# Altium schematic symbol library capacitor_murata_0201.SchLib: 408 symbols (part 1 of 9)
Pins are listed as number, name and electrical type; pins without a type are passive.

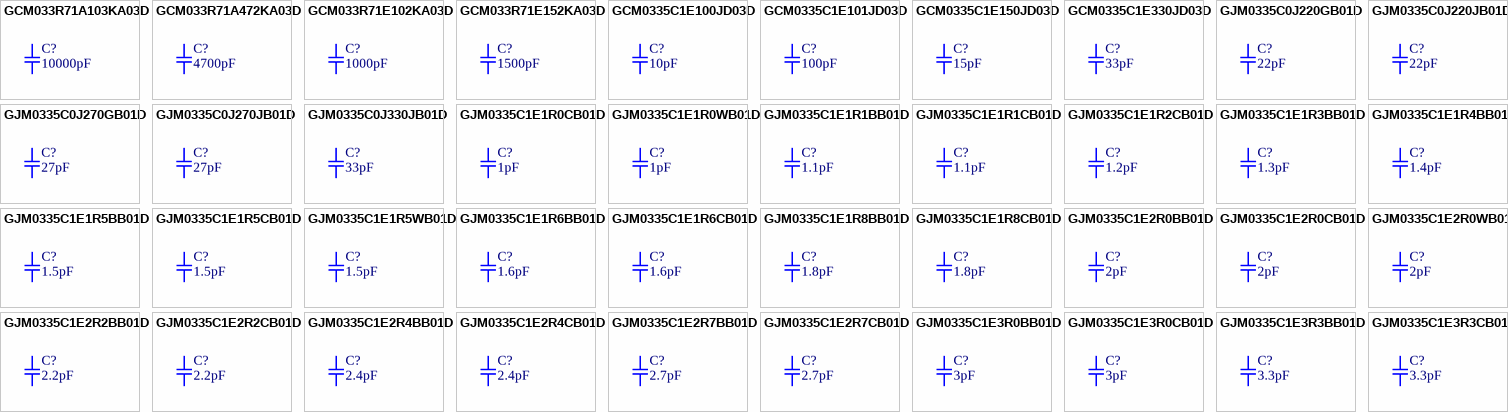
[diagram p0: symbols GCM033R71A103KA03D to GJM0335C1E3R3CB01D]

## GCM033R71A103KA03D
designator C?, comment 10000pF
CAP CER 10000PF 10V X7R 0201; Part Number: GCM033R71A103KA03D; Manufacturer: Murata Electronics North America; Factory Stock: 0; Unit Price (USD): 0.1; Minimum Quantity: 1; Tolerance: ±10%; Datasheets: http://www.murata.com/~/media/webrenewal/support/library/catalog/products/capacitor/mlcc/c03e.ashx; Image: //media.digikey.com/Renders/Murata%20Renders/0201-0603.jpg; Digi-Key Part Number: 490-6040-1-ND; Quantity Available: 388635; @ qty: 0; Packaging: Cut Tape (CT); Series: GCM; Part Status: Active; Value: 10000pF; Voltage: 10V; Temperature Coefficient: X7R; Operating Temperature: -55°C ~ 125°C; Features: -; Ratings: AEC-Q200; Applications: Automotive; Failure Rate: Surface Mount, MLCC; Mounting Type: 0201 (0603 Metric); Package / Case: 0.024" L x 0.012" W (0.60mm x 0.30mm); Size / Dimension: -; Height - Seated (Max): 0.013" (0.33mm); Thickness (Max): -; Lead Spacing: -
footprint SMD-0201C
pins: 1, 2

## GCM033R71A472KA03D
designator C?, comment 4700pF
CAP CER 4700PF 10V X7R 0201; Part Number: GCM033R71A472KA03D; Manufacturer: Murata Electronics North America; Factory Stock: 0; Unit Price (USD): 0.1; Minimum Quantity: 1; Tolerance: ±10%; Datasheets: http://www.murata.com/~/media/webrenewal/support/library/catalog/products/capacitor/mlcc/c03e.ashx; Image: //media.digikey.com/Renders/Murata%20Renders/0201-0603.jpg; Digi-Key Part Number: 490-7994-1-ND; Quantity Available: 24915; @ qty: 0; Packaging: Cut Tape (CT); Series: GCM; Part Status: Active; Value: 4700pF; Voltage: 10V; Temperature Coefficient: X7R; Operating Temperature: -55°C ~ 125°C; Features: -; Ratings: AEC-Q200; Applications: Automotive; Failure Rate: Surface Mount, MLCC; Mounting Type: 0201 (0603 Metric); Package / Case: 0.024" L x 0.012" W (0.60mm x 0.30mm); Size / Dimension: -; Height - Seated (Max): 0.013" (0.33mm); Thickness (Max): -; Lead Spacing: -
footprint SMD-0201C
pins: 1, 2

## GCM033R71E102KA03D
designator C?, comment 1000pF
CAP CER 1000PF 25V X7R 0201; Part Number: GCM033R71E102KA03D; Manufacturer: Murata Electronics North America; Factory Stock: 0; Unit Price (USD): 0.1; Minimum Quantity: 1; Tolerance: ±10%; Datasheets: http://www.murata.com/~/media/webrenewal/support/library/catalog/products/capacitor/mlcc/c03e.ashx; Image: //media.digikey.com/Renders/Murata%20Renders/0201-0603.jpg; Digi-Key Part Number: 490-7995-1-ND; Quantity Available: 112597; @ qty: 0; Packaging: Cut Tape (CT); Series: GCM; Part Status: Active; Value: 1000pF; Voltage: 25V; Temperature Coefficient: X7R; Operating Temperature: -55°C ~ 125°C; Features: -; Ratings: AEC-Q200; Applications: Automotive; Failure Rate: Surface Mount, MLCC; Mounting Type: 0201 (0603 Metric); Package / Case: 0.024" L x 0.012" W (0.60mm x 0.30mm); Size / Dimension: -; Height - Seated (Max): 0.013" (0.33mm); Thickness (Max): -; Lead Spacing: -
footprint SMD-0201C
pins: 1, 2

## GCM033R71E152KA03D
designator C?, comment 1500pF
CAP CER 1500PF 25V X7R 0201; Part Number: GCM033R71E152KA03D; Manufacturer: Murata Electronics North America; Factory Stock: 0; Unit Price (USD): 0.1; Minimum Quantity: 1; Tolerance: ±10%; Datasheets: http://www.murata.com/~/media/webrenewal/support/library/catalog/products/capacitor/mlcc/c03e.ashx; Image: //media.digikey.com/Renders/Murata%20Renders/0201-0603.jpg; Digi-Key Part Number: 490-7996-1-ND; Quantity Available: 74800; @ qty: 0; Packaging: Cut Tape (CT); Series: GCM; Part Status: Active; Value: 1500pF; Voltage: 25V; Temperature Coefficient: X7R; Operating Temperature: -55°C ~ 125°C; Features: -; Ratings: AEC-Q200; Applications: Automotive; Failure Rate: Surface Mount, MLCC; Mounting Type: 0201 (0603 Metric); Package / Case: 0.024" L x 0.012" W (0.60mm x 0.30mm); Size / Dimension: -; Height - Seated (Max): 0.013" (0.33mm); Thickness (Max): -; Lead Spacing: -
footprint SMD-0201C
pins: 1, 2

## GCM0335C1E100JD03D
designator C?, comment 10pF
CAP CER 10PF 25V NP0 0201; Part Number: GCM0335C1E100JD03D; Manufacturer: Murata Electronics North America; Factory Stock: 0; Unit Price (USD): 0.1; Minimum Quantity: 1; Tolerance: ±5%; Temperature Coefficient: C0G, NP0; Datasheets: http://psearch.murata.com/capacitor/product/GCM0335C1E100JD03%23.pdf; Image: //media.digikey.com/Renders/Murata%20Renders/0201-0603.jpg; Digi-Key Part Number: 490-7992-1-ND; Quantity Available: 23917; @ qty: 0; Packaging: Cut Tape (CT); Series: GCM; Part Status: Active; Value: 10pF; Voltage: 25V; Operating Temperature: -55°C ~ 125°C; Features: -; Ratings: AEC-Q200; Applications: Automotive; Failure Rate: Surface Mount, MLCC; Mounting Type: 0201 (0603 Metric); Package / Case: 0.024" L x 0.012" W (0.60mm x 0.30mm); Size / Dimension: -; Height - Seated (Max): 0.013" (0.33mm); Thickness (Max): -; Lead Spacing: -
footprint SMD-0201C
pins: 1, 2

## GCM0335C1E101JD03D
designator C?, comment 100pF
CAP CER 100PF 25V NP0 0201; Part Number: GCM0335C1E101JD03D; Manufacturer: Murata Electronics North America; Factory Stock: 0; Unit Price (USD): 0.1; Minimum Quantity: 1; Tolerance: ±5%; Temperature Coefficient: C0G, NP0; Datasheets: http://psearch.murata.com/capacitor/product/GCM0335C1E101JD03%23.pdf; Image: //media.digikey.com/Renders/Murata%20Renders/0201-0603.jpg; Digi-Key Part Number: 490-12648-1-ND; Quantity Available: 3722; @ qty: 0; Packaging: Cut Tape (CT); Series: GCM; Part Status: Active; Value: 100pF; Voltage: 25V; Operating Temperature: -55°C ~ 125°C; Features: -; Ratings: AEC-Q200; Applications: Automotive; Failure Rate: Surface Mount, MLCC; Mounting Type: 0201 (0603 Metric); Package / Case: 0.024" L x 0.012" W (0.60mm x 0.30mm); Size / Dimension: -; Height - Seated (Max): 0.013" (0.33mm); Thickness (Max): -; Lead Spacing: -
footprint SMD-0201C
pins: 1, 2

## GCM0335C1E150JD03D
designator C?, comment 15pF
CAP CER 15PF 25V NP0 0201; Part Number: GCM0335C1E150JD03D; Manufacturer: Murata Electronics North America; Factory Stock: 0; Unit Price (USD): 0.1; Minimum Quantity: 1; Tolerance: ±5%; Temperature Coefficient: C0G, NP0; Datasheets: http://psearch.murata.com/capacitor/product/GCM0335C1E150JD03%23.pdf; Image: //media.digikey.com/Renders/Murata%20Renders/0201-0603.jpg; Digi-Key Part Number: 490-7993-1-ND; Quantity Available: 8070; @ qty: 0; Packaging: Cut Tape (CT); Series: GCM; Part Status: Active; Value: 15pF; Voltage: 25V; Operating Temperature: -55°C ~ 125°C; Features: -; Ratings: AEC-Q200; Applications: Automotive; Failure Rate: Surface Mount, MLCC; Mounting Type: 0201 (0603 Metric); Package / Case: 0.024" L x 0.012" W (0.60mm x 0.30mm); Size / Dimension: -; Height - Seated (Max): 0.013" (0.33mm); Thickness (Max): -; Lead Spacing: -
footprint SMD-0201C
pins: 1, 2

## GCM0335C1E330JD03D
designator C?, comment 33pF
CAP CER 33PF 25V NP0 0201; Part Number: GCM0335C1E330JD03D; Manufacturer: Murata Electronics North America; Factory Stock: 0; Unit Price (USD): 0.1; Minimum Quantity: 1; Tolerance: ±5%; Temperature Coefficient: C0G, NP0; Datasheets: http://www.murata.com/~/media/webrenewal/support/library/catalog/products/capacitor/mlcc/c03e.ashx; Image: //media.digikey.com/Renders/Murata%20Renders/0201-0603.jpg; Digi-Key Part Number: 490-13286-1-ND; Quantity Available: 16950; @ qty: 0; Packaging: Cut Tape (CT); Series: GCM; Part Status: Active; Value: 33pF; Voltage: 25V; Operating Temperature: -55°C ~ 125°C; Features: -; Ratings: AEC-Q200; Applications: Automotive; Failure Rate: Surface Mount, MLCC; Mounting Type: 0201 (0603 Metric); Package / Case: 0.024" L x 0.012" W (0.60mm x 0.30mm); Size / Dimension: -; Height - Seated (Max): 0.013" (0.33mm); Thickness (Max): -; Lead Spacing: -
footprint SMD-0201C
pins: 1, 2

## GJM0335C0J220GB01D
designator C?, comment 22pF
CAP CER 22PF 6.3V NP0 0201; Part Number: GJM0335C0J220GB01D; Manufacturer: Murata Electronics North America; Factory Stock: 0; Unit Price (USD): 0.21; Minimum Quantity: 1; Tolerance: ±2%; Temperature Coefficient: C0G, NP0; Datasheets: http://www.murata.com/~/media/webrenewal/support/library/catalog/products/capacitor/mlcc/c02e.pdf; Image: //media.digikey.com/Renders/Murata%20Renders/ZRB-SERIES-0402.jpg; Digi-Key Part Number: 490-6067-1-ND; Quantity Available: 13784; @ qty: 0; Packaging: Cut Tape (CT); Series: GJM; Part Status: Active; Value: 22pF; Voltage: 6.3V; Operating Temperature: -55°C ~ 125°C; Features: High Q, Low Loss; Ratings: -; Applications: RF, Microwave, High Frequency; Failure Rate: Surface Mount, MLCC; Mounting Type: 0201 (0603 Metric); Package / Case: 0.024" L x 0.012" W (0.60mm x 0.30mm); Size / Dimension: -; Height - Seated (Max): 0.013" (0.33mm); Thickness (Max): -; Lead Spacing: -
footprint SMD-0201C
pins: 1, 2

## GJM0335C0J220JB01D
designator C?, comment 22pF
CAP CER 22PF 6.3V NP0 0201; Part Number: GJM0335C0J220JB01D; Manufacturer: Murata Electronics North America; Factory Stock: 0; Unit Price (USD): 0.1; Minimum Quantity: 1; Tolerance: ±5%; Temperature Coefficient: C0G, NP0; Datasheets: http://www.murata.com/~/media/webrenewal/support/library/catalog/products/capacitor/mlcc/c02e.pdf; Image: //media.digikey.com/Renders/Murata%20Renders/ZRB-SERIES-0402.jpg; Digi-Key Part Number: 490-6068-1-ND; Quantity Available: 61350; @ qty: 0; Packaging: Cut Tape (CT); Series: GJM; Part Status: Active; Value: 22pF; Voltage: 6.3V; Operating Temperature: -55°C ~ 125°C; Features: High Q, Low Loss; Ratings: -; Applications: RF, Microwave, High Frequency; Failure Rate: Surface Mount, MLCC; Mounting Type: 0201 (0603 Metric); Package / Case: 0.024" L x 0.012" W (0.60mm x 0.30mm); Size / Dimension: -; Height - Seated (Max): 0.013" (0.33mm); Thickness (Max): -; Lead Spacing: -
footprint SMD-0201C
pins: 1, 2

## GJM0335C0J270GB01D
designator C?, comment 27pF
CAP CER 27PF 6.3V NP0 0201; Part Number: GJM0335C0J270GB01D; Manufacturer: Murata Electronics North America; Factory Stock: 0; Unit Price (USD): 0.11; Minimum Quantity: 1; Tolerance: ±2%; Temperature Coefficient: C0G, NP0; Datasheets: http://www.murata.com/~/media/webrenewal/support/library/catalog/products/capacitor/mlcc/c02e.pdf; Image: //media.digikey.com/Renders/Murata%20Renders/ZRB-SERIES-0402.jpg; Digi-Key Part Number: 490-11171-1-ND; Quantity Available: 6650; @ qty: 0; Packaging: Cut Tape (CT); Series: GJM; Part Status: Active; Value: 27pF; Voltage: 6.3V; Operating Temperature: -55°C ~ 125°C; Features: High Q, Low Loss; Ratings: -; Applications: RF, Microwave, High Frequency; Failure Rate: Surface Mount, MLCC; Mounting Type: 0201 (0603 Metric); Package / Case: 0.024" L x 0.012" W (0.60mm x 0.30mm); Size / Dimension: -; Height - Seated (Max): 0.013" (0.33mm); Thickness (Max): -; Lead Spacing: -
footprint SMD-0201C
pins: 1, 2

## GJM0335C0J270JB01D
designator C?, comment 27pF
CAP CER 27PF 6.3V NP0 0201; Part Number: GJM0335C0J270JB01D; Manufacturer: Murata Electronics North America; Factory Stock: 0; Unit Price (USD): 0.1; Minimum Quantity: 1; Tolerance: ±5%; Temperature Coefficient: C0G, NP0; Datasheets: http://www.murata.com/~/media/webrenewal/support/library/catalog/products/capacitor/mlcc/c02e.pdf; Image: //media.digikey.com/Renders/Murata%20Renders/ZRB-SERIES-0402.jpg; Digi-Key Part Number: 490-8067-1-ND; Quantity Available: 38582; @ qty: 0; Packaging: Cut Tape (CT); Series: GJM; Part Status: Active; Value: 27pF; Voltage: 6.3V; Operating Temperature: -55°C ~ 125°C; Features: High Q, Low Loss; Ratings: -; Applications: RF, Microwave, High Frequency; Failure Rate: Surface Mount, MLCC; Mounting Type: 0201 (0603 Metric); Package / Case: 0.024" L x 0.012" W (0.60mm x 0.30mm); Size / Dimension: -; Height - Seated (Max): 0.013" (0.33mm); Thickness (Max): -; Lead Spacing: -
footprint SMD-0201C
pins: 1, 2

## GJM0335C0J330JB01D
designator C?, comment 33pF
CAP CER 33PF 6.3V NP0 0201; Part Number: GJM0335C0J330JB01D; Manufacturer: Murata Electronics North America; Factory Stock: 0; Unit Price (USD): 0.1; Minimum Quantity: 1; Tolerance: ±5%; Temperature Coefficient: C0G, NP0; Datasheets: http://www.murata.com/~/media/webrenewal/support/library/catalog/products/capacitor/mlcc/c02e.pdf; Image: //media.digikey.com/Renders/Murata%20Renders/ZRB-SERIES-0402.jpg; Digi-Key Part Number: 490-8068-1-ND; Quantity Available: 76320; @ qty: 0; Packaging: Cut Tape (CT); Series: GJM; Part Status: Active; Value: 33pF; Voltage: 6.3V; Operating Temperature: -55°C ~ 125°C; Features: High Q, Low Loss; Ratings: -; Applications: RF, Microwave, High Frequency; Failure Rate: Surface Mount, MLCC; Mounting Type: 0201 (0603 Metric); Package / Case: 0.024" L x 0.012" W (0.60mm x 0.30mm); Size / Dimension: -; Height - Seated (Max): 0.013" (0.33mm); Thickness (Max): -; Lead Spacing: -
footprint SMD-0201C
pins: 1, 2

## GJM0335C1E1R0CB01D
designator C?, comment 1pF
CAP CER 1PF 25V NP0 0201; Part Number: GJM0335C1E1R0CB01D; Manufacturer: Murata Electronics North America; Factory Stock: 0; Unit Price (USD): 0.1; Minimum Quantity: 1; Tolerance: ±0.25pF; Temperature Coefficient: C0G, NP0; Datasheets: http://www.murata.com/~/media/webrenewal/support/library/catalog/products/capacitor/mlcc/c02e.pdf; Image: //media.digikey.com/Renders/Murata%20Renders/ZRB-SERIES-0402.jpg; Digi-Key Part Number: 490-3053-1-ND; Quantity Available: 36208; @ qty: 0; Packaging: Cut Tape (CT); Series: GJM; Part Status: Active; Value: 1pF; Voltage: 25V; Operating Temperature: -55°C ~ 125°C; Features: High Q, Low Loss; Ratings: -; Applications: RF, Microwave, High Frequency; Failure Rate: Surface Mount, MLCC; Mounting Type: 0201 (0603 Metric); Package / Case: 0.024" L x 0.012" W (0.60mm x 0.30mm); Size / Dimension: -; Height - Seated (Max): 0.013" (0.33mm); Thickness (Max): -; Lead Spacing: -
footprint SMD-0201C
pins: 1, 2

## GJM0335C1E1R0WB01D
designator C?, comment 1pF
CAP CER 1PF 25V NP0 0201; Part Number: GJM0335C1E1R0WB01D; Manufacturer: Murata Electronics North America; Factory Stock: 0; Unit Price (USD): 0.34; Minimum Quantity: 1; Tolerance: ±0.05pF; Temperature Coefficient: C0G, NP0; Datasheets: http://www.murata.com/~/media/webrenewal/support/library/catalog/products/capacitor/mlcc/c02e.pdf; Image: //media.digikey.com/Renders/Murata%20Renders/ZRB-SERIES-0402.jpg; Digi-Key Part Number: 490-10677-1-ND; Quantity Available: 21951; @ qty: 0; Packaging: Cut Tape (CT); Series: GJM; Part Status: Active; Value: 1pF; Voltage: 25V; Operating Temperature: -55°C ~ 125°C; Features: High Q, Low Loss; Ratings: -; Applications: RF, Microwave, High Frequency; Failure Rate: Surface Mount, MLCC; Mounting Type: 0201 (0603 Metric); Package / Case: 0.024" L x 0.012" W (0.60mm x 0.30mm); Size / Dimension: -; Height - Seated (Max): 0.013" (0.33mm); Thickness (Max): -; Lead Spacing: -
footprint SMD-0201C
pins: 1, 2

## GJM0335C1E1R1BB01D
designator C?, comment 1.1pF
CAP CER 1.1PF 25V NP0 0201; Part Number: GJM0335C1E1R1BB01D; Manufacturer: Murata Electronics North America; Factory Stock: 0; Unit Price (USD): 0.21; Minimum Quantity: 1; Tolerance: ±0.1pF; Temperature Coefficient: C0G, NP0; Datasheets: http://www.murata.com/~/media/webrenewal/support/library/catalog/products/capacitor/mlcc/c02e.pdf; Image: //media.digikey.com/Renders/Murata%20Renders/ZRB-SERIES-0402.jpg; Digi-Key Part Number: 490-12591-1-ND; Quantity Available: 28772; @ qty: 0; Packaging: Cut Tape (CT); Series: GJM; Part Status: Active; Value: 1.1pF; Voltage: 25V; Operating Temperature: -55°C ~ 125°C; Features: High Q, Low Loss; Ratings: -; Applications: RF, Microwave, High Frequency; Failure Rate: Surface Mount, MLCC; Mounting Type: 0201 (0603 Metric); Package / Case: 0.024" L x 0.012" W (0.60mm x 0.30mm); Size / Dimension: -; Height - Seated (Max): 0.013" (0.33mm); Thickness (Max): -; Lead Spacing: -
footprint SMD-0201C
pins: 1, 2

## GJM0335C1E1R1CB01D
designator C?, comment 1.1pF
CAP CER 1.1PF 25V NP0 0201; Part Number: GJM0335C1E1R1CB01D; Manufacturer: Murata Electronics North America; Factory Stock: 0; Unit Price (USD): 0.1; Minimum Quantity: 1; Tolerance: ±0.25pF; Temperature Coefficient: C0G, NP0; Datasheets: http://www.murata.com/~/media/webrenewal/support/library/catalog/products/capacitor/mlcc/c02e.pdf; Image: //media.digikey.com/Renders/Murata%20Renders/ZRB-SERIES-0402.jpg; Digi-Key Part Number: 490-3054-1-ND; Quantity Available: 14330; @ qty: 0; Packaging: Cut Tape (CT); Series: GJM; Part Status: Active; Value: 1.1pF; Voltage: 25V; Operating Temperature: -55°C ~ 125°C; Features: High Q, Low Loss; Ratings: -; Applications: RF, Microwave, High Frequency; Failure Rate: Surface Mount, MLCC; Mounting Type: 0201 (0603 Metric); Package / Case: 0.024" L x 0.012" W (0.60mm x 0.30mm); Size / Dimension: -; Height - Seated (Max): 0.013" (0.33mm); Thickness (Max): -; Lead Spacing: -
footprint SMD-0201C
pins: 1, 2

## GJM0335C1E1R2CB01D
designator C?, comment 1.2pF
CAP CER 1.2PF 25V NP0 0201; Part Number: GJM0335C1E1R2CB01D; Manufacturer: Murata Electronics North America; Factory Stock: 0; Unit Price (USD): 0.1; Minimum Quantity: 1; Tolerance: ±0.25pF; Temperature Coefficient: C0G, NP0; Datasheets: http://www.murata.com/~/media/webrenewal/support/library/catalog/products/capacitor/mlcc/c02e.pdf; Image: //media.digikey.com/Renders/Murata%20Renders/ZRB-SERIES-0402.jpg; Digi-Key Part Number: 490-3055-1-ND; Quantity Available: 41030; @ qty: 0; Packaging: Cut Tape (CT); Series: GJM; Part Status: Active; Value: 1.2pF; Voltage: 25V; Operating Temperature: -55°C ~ 125°C; Features: High Q, Low Loss; Ratings: -; Applications: RF, Microwave, High Frequency; Failure Rate: Surface Mount, MLCC; Mounting Type: 0201 (0603 Metric); Package / Case: 0.024" L x 0.012" W (0.60mm x 0.30mm); Size / Dimension: -; Height - Seated (Max): 0.013" (0.33mm); Thickness (Max): -; Lead Spacing: -
footprint SMD-0201C
pins: 1, 2

## GJM0335C1E1R3BB01D
designator C?, comment 1.3pF
CAP CER 1.3PF 25V NP0 0201; Part Number: GJM0335C1E1R3BB01D; Manufacturer: Murata Electronics North America; Factory Stock: 0; Unit Price (USD): 0.21; Minimum Quantity: 1; Tolerance: ±0.1pF; Temperature Coefficient: C0G, NP0; Datasheets: http://www.murata.com/~/media/webrenewal/support/library/catalog/products/capacitor/mlcc/c02e.pdf; Image: //media.digikey.com/Renders/Murata%20Renders/ZRB-SERIES-0402.jpg; Digi-Key Part Number: 490-8069-1-ND; Quantity Available: 11471; @ qty: 0; Packaging: Cut Tape (CT); Series: GJM; Part Status: Active; Value: 1.3pF; Voltage: 25V; Operating Temperature: -55°C ~ 125°C; Features: High Q, Low Loss; Ratings: -; Applications: RF, Microwave, High Frequency; Failure Rate: Surface Mount, MLCC; Mounting Type: 0201 (0603 Metric); Package / Case: 0.024" L x 0.012" W (0.60mm x 0.30mm); Size / Dimension: -; Height - Seated (Max): 0.013" (0.33mm); Thickness (Max): -; Lead Spacing: -
footprint SMD-0201C
pins: 1, 2

## GJM0335C1E1R4BB01D
designator C?, comment 1.4pF
CAP CER 1.4PF 25V NP0 0201; Part Number: GJM0335C1E1R4BB01D; Manufacturer: Murata Electronics North America; Factory Stock: 0; Unit Price (USD): 0.1; Minimum Quantity: 1; Tolerance: ±0.1pF; Temperature Coefficient: C0G, NP0; Datasheets: http://www.murata.com/~/media/webrenewal/support/library/catalog/products/capacitor/mlcc/c02e.pdf; Image: //media.digikey.com/Renders/Murata%20Renders/ZRB-SERIES-0402.jpg; Digi-Key Part Number: 490-11174-1-ND; Quantity Available: 17441; @ qty: 0; Packaging: Cut Tape (CT); Series: GJM; Part Status: Active; Value: 1.4pF; Voltage: 25V; Operating Temperature: -55°C ~ 125°C; Features: High Q, Low Loss; Ratings: -; Applications: RF, Microwave, High Frequency; Failure Rate: Surface Mount, MLCC; Mounting Type: 0201 (0603 Metric); Package / Case: 0.024" L x 0.012" W (0.60mm x 0.30mm); Size / Dimension: -; Height - Seated (Max): 0.013" (0.33mm); Thickness (Max): -; Lead Spacing: -
footprint SMD-0201C
pins: 1, 2

## GJM0335C1E1R5BB01D
designator C?, comment 1.5pF
CAP CER 1.5PF 25V NP0 0201; Part Number: GJM0335C1E1R5BB01D; Manufacturer: Murata Electronics North America; Factory Stock: 0; Unit Price (USD): 0.21; Minimum Quantity: 1; Tolerance: ±0.1pF; Temperature Coefficient: C0G, NP0; Datasheets: http://www.murata.com/~/media/webrenewal/support/library/catalog/products/capacitor/mlcc/c02e.pdf; Image: //media.digikey.com/Renders/Murata%20Renders/ZRB-SERIES-0402.jpg; Digi-Key Part Number: 490-11175-1-ND; Quantity Available: 89101; @ qty: 0; Packaging: Cut Tape (CT); Series: GJM; Part Status: Active; Value: 1.5pF; Voltage: 25V; Operating Temperature: -55°C ~ 125°C; Features: High Q, Low Loss; Ratings: -; Applications: RF, Microwave, High Frequency; Failure Rate: Surface Mount, MLCC; Mounting Type: 0201 (0603 Metric); Package / Case: 0.024" L x 0.012" W (0.60mm x 0.30mm); Size / Dimension: -; Height - Seated (Max): 0.013" (0.33mm); Thickness (Max): -; Lead Spacing: -
footprint SMD-0201C
pins: 1, 2

## GJM0335C1E1R5CB01D
designator C?, comment 1.5pF
CAP CER 1.5PF 25V NP0 0201; Part Number: GJM0335C1E1R5CB01D; Manufacturer: Murata Electronics North America; Factory Stock: 0; Unit Price (USD): 0.1; Minimum Quantity: 1; Tolerance: ±0.25pF; Temperature Coefficient: C0G, NP0; Datasheets: http://www.murata.com/~/media/webrenewal/support/library/catalog/products/capacitor/mlcc/c02e.pdf; Image: //media.digikey.com/Renders/Murata%20Renders/ZRB-SERIES-0402.jpg; Digi-Key Part Number: 490-3057-1-ND; Quantity Available: 16738; @ qty: 0; Packaging: Cut Tape (CT); Series: GJM; Part Status: Active; Value: 1.5pF; Voltage: 25V; Operating Temperature: -55°C ~ 125°C; Features: High Q, Low Loss; Ratings: -; Applications: RF, Microwave, High Frequency; Failure Rate: Surface Mount, MLCC; Mounting Type: 0201 (0603 Metric); Package / Case: 0.024" L x 0.012" W (0.60mm x 0.30mm); Size / Dimension: -; Height - Seated (Max): 0.013" (0.33mm); Thickness (Max): -; Lead Spacing: -
footprint SMD-0201C
pins: 1, 2

## GJM0335C1E1R5WB01D
designator C?, comment 1.5pF
CAP CER 1.5PF 25V NP0 0201; Part Number: GJM0335C1E1R5WB01D; Manufacturer: Murata Electronics North America; Factory Stock: 0; Unit Price (USD): 0.34; Minimum Quantity: 1; Tolerance: ±0.05pF; Temperature Coefficient: C0G, NP0; Datasheets: http://www.murata.com/~/media/webrenewal/support/library/catalog/products/capacitor/mlcc/c02e.pdf; Image: //media.digikey.com/Renders/Murata%20Renders/ZRB-SERIES-0402.jpg; Digi-Key Part Number: 490-11176-1-ND; Quantity Available: 2985; @ qty: 0; Packaging: Cut Tape (CT); Series: GJM; Part Status: Active; Value: 1.5pF; Voltage: 25V; Operating Temperature: -55°C ~ 125°C; Features: High Q, Low Loss; Ratings: -; Applications: RF, Microwave, High Frequency; Failure Rate: Surface Mount, MLCC; Mounting Type: 0201 (0603 Metric); Package / Case: 0.024" L x 0.012" W (0.60mm x 0.30mm); Size / Dimension: -; Height - Seated (Max): 0.013" (0.33mm); Thickness (Max): -; Lead Spacing: -
footprint SMD-0201C
pins: 1, 2

## GJM0335C1E1R6BB01D
designator C?, comment 1.6pF
CAP CER 1.6PF 25V NP0 0201; Part Number: GJM0335C1E1R6BB01D; Manufacturer: Murata Electronics North America; Factory Stock: 0; Unit Price (USD): 0.21; Minimum Quantity: 1; Tolerance: ±0.1pF; Temperature Coefficient: C0G, NP0; Datasheets: http://www.murata.com/~/media/webrenewal/support/library/catalog/products/capacitor/mlcc/c02e.pdf; Image: //media.digikey.com/Renders/Murata%20Renders/ZRB-SERIES-0402.jpg; Digi-Key Part Number: 490-11177-1-ND; Quantity Available: 5905; @ qty: 0; Packaging: Cut Tape (CT); Series: GJM; Part Status: Active; Value: 1.6pF; Voltage: 25V; Operating Temperature: -55°C ~ 125°C; Features: High Q, Low Loss; Ratings: -; Applications: RF, Microwave, High Frequency; Failure Rate: Surface Mount, MLCC; Mounting Type: 0201 (0603 Metric); Package / Case: 0.024" L x 0.012" W (0.60mm x 0.30mm); Size / Dimension: -; Height - Seated (Max): 0.013" (0.33mm); Thickness (Max): -; Lead Spacing: -
footprint SMD-0201C
pins: 1, 2

## GJM0335C1E1R6CB01D
designator C?, comment 1.6pF
CAP CER 1.6PF 25V NP0 0201; Part Number: GJM0335C1E1R6CB01D; Manufacturer: Murata Electronics North America; Factory Stock: 0; Unit Price (USD): 0.13; Minimum Quantity: 1; Tolerance: ±0.25pF; Temperature Coefficient: C0G, NP0; Datasheets: http://www.murata.com/~/media/webrenewal/support/library/catalog/products/capacitor/mlcc/c02e.pdf; Image: //media.digikey.com/Renders/Murata%20Renders/ZRB-SERIES-0402.jpg; Digi-Key Part Number: 490-3058-1-ND; Quantity Available: 47892; @ qty: 0; Packaging: Cut Tape (CT); Series: GJM; Part Status: Active; Value: 1.6pF; Voltage: 25V; Operating Temperature: -55°C ~ 125°C; Features: High Q, Low Loss; Ratings: -; Applications: RF, Microwave, High Frequency; Failure Rate: Surface Mount, MLCC; Mounting Type: 0201 (0603 Metric); Package / Case: 0.024" L x 0.012" W (0.60mm x 0.30mm); Size / Dimension: -; Height - Seated (Max): 0.013" (0.33mm); Thickness (Max): -; Lead Spacing: -
footprint SMD-0201C
pins: 1, 2

## GJM0335C1E1R8BB01D
designator C?, comment 1.8pF
CAP CER 1.8PF 25V NP0 0201; Part Number: GJM0335C1E1R8BB01D; Manufacturer: Murata Electronics North America; Factory Stock: 0; Unit Price (USD): 0.21; Minimum Quantity: 1; Tolerance: ±0.1pF; Temperature Coefficient: C0G, NP0; Datasheets: http://www.murata.com/~/media/webrenewal/support/library/catalog/products/capacitor/mlcc/c02e.pdf; Image: //media.digikey.com/Renders/Murata%20Renders/ZRB-SERIES-0402.jpg; Digi-Key Part Number: 490-8581-1-ND; Quantity Available: 36115; @ qty: 0; Packaging: Cut Tape (CT); Series: GJM; Part Status: Active; Value: 1.8pF; Voltage: 25V; Operating Temperature: -55°C ~ 125°C; Features: High Q, Low Loss; Ratings: -; Applications: RF, Microwave, High Frequency; Failure Rate: Surface Mount, MLCC; Mounting Type: 0201 (0603 Metric); Package / Case: 0.024" L x 0.012" W (0.60mm x 0.30mm); Size / Dimension: -; Height - Seated (Max): 0.013" (0.33mm); Thickness (Max): -; Lead Spacing: -
footprint SMD-0201C
pins: 1, 2

## GJM0335C1E1R8CB01D
designator C?, comment 1.8pF
CAP CER 1.8PF 25V NP0 0201; Part Number: GJM0335C1E1R8CB01D; Manufacturer: Murata Electronics North America; Factory Stock: 0; Unit Price (USD): 0.1; Minimum Quantity: 1; Tolerance: ±0.25pF; Temperature Coefficient: C0G, NP0; Datasheets: http://www.murata.com/~/media/webrenewal/support/library/catalog/products/capacitor/mlcc/c02e.pdf; Image: //media.digikey.com/Renders/Murata%20Renders/ZRB-SERIES-0402.jpg; Digi-Key Part Number: 490-3059-1-ND; Quantity Available: 41429; @ qty: 0; Packaging: Cut Tape (CT); Series: GJM; Part Status: Active; Value: 1.8pF; Voltage: 25V; Operating Temperature: -55°C ~ 125°C; Features: High Q, Low Loss; Ratings: -; Applications: RF, Microwave, High Frequency; Failure Rate: Surface Mount, MLCC; Mounting Type: 0201 (0603 Metric); Package / Case: 0.024" L x 0.012" W (0.60mm x 0.30mm); Size / Dimension: -; Height - Seated (Max): 0.013" (0.33mm); Thickness (Max): -; Lead Spacing: -
footprint SMD-0201C
pins: 1, 2

## GJM0335C1E2R0BB01D
designator C?, comment 2pF
CAP CER 2PF 25V NP0 0201; Part Number: GJM0335C1E2R0BB01D; Manufacturer: Murata Electronics North America; Factory Stock: 0; Unit Price (USD): 0.21; Minimum Quantity: 1; Tolerance: ±0.1pF; Temperature Coefficient: C0G, NP0; Datasheets: http://www.murata.com/~/media/webrenewal/support/library/catalog/products/capacitor/mlcc/c02e.pdf; Image: //media.digikey.com/Renders/Murata%20Renders/ZRB-SERIES-0402.jpg; Digi-Key Part Number: 490-11178-1-ND; Quantity Available: 17860; @ qty: 0; Packaging: Cut Tape (CT); Series: GJM; Part Status: Active; Value: 2pF; Voltage: 25V; Operating Temperature: -55°C ~ 125°C; Features: High Q, Low Loss; Ratings: -; Applications: RF, Microwave, High Frequency; Failure Rate: Surface Mount, MLCC; Mounting Type: 0201 (0603 Metric); Package / Case: 0.024" L x 0.012" W (0.60mm x 0.30mm); Size / Dimension: -; Height - Seated (Max): 0.013" (0.33mm); Thickness (Max): -; Lead Spacing: -
footprint SMD-0201C
pins: 1, 2

## GJM0335C1E2R0CB01D
designator C?, comment 2pF
CAP CER 2PF 25V NP0 0201; Part Number: GJM0335C1E2R0CB01D; Manufacturer: Murata Electronics North America; Factory Stock: 0; Unit Price (USD): 0.13; Minimum Quantity: 1; Tolerance: ±0.25pF; Temperature Coefficient: C0G, NP0; Datasheets: http://www.murata.com/~/media/webrenewal/support/library/catalog/products/capacitor/mlcc/c02e.pdf; Image: //media.digikey.com/Renders/Murata%20Renders/ZRB-SERIES-0402.jpg; Digi-Key Part Number: 490-3060-1-ND; Quantity Available: 30209; @ qty: 0; Packaging: Cut Tape (CT); Series: GJM; Part Status: Active; Value: 2pF; Voltage: 25V; Operating Temperature: -55°C ~ 125°C; Features: High Q, Low Loss; Ratings: -; Applications: RF, Microwave, High Frequency; Failure Rate: Surface Mount, MLCC; Mounting Type: 0201 (0603 Metric); Package / Case: 0.024" L x 0.012" W (0.60mm x 0.30mm); Size / Dimension: -; Height - Seated (Max): 0.013" (0.33mm); Thickness (Max): -; Lead Spacing: -
footprint SMD-0201C
pins: 1, 2

## GJM0335C1E2R0WB01D
designator C?, comment 2pF
CAP CER 2PF 25V NP0 0201; Part Number: GJM0335C1E2R0WB01D; Manufacturer: Murata Electronics North America; Factory Stock: 0; Unit Price (USD): 0.34; Minimum Quantity: 1; Tolerance: ±0.05pF; Temperature Coefficient: C0G, NP0; Datasheets: http://www.murata.com/~/media/webrenewal/support/library/catalog/products/capacitor/mlcc/c02e.pdf; Image: //media.digikey.com/Renders/Murata%20Renders/ZRB-SERIES-0402.jpg; Digi-Key Part Number: 490-12592-1-ND; Quantity Available: 17638; @ qty: 0; Packaging: Cut Tape (CT); Series: GJM; Part Status: Active; Value: 2pF; Voltage: 25V; Operating Temperature: -55°C ~ 125°C; Features: High Q, Low Loss; Ratings: -; Applications: RF, Microwave, High Frequency; Failure Rate: Surface Mount, MLCC; Mounting Type: 0201 (0603 Metric); Package / Case: 0.024" L x 0.012" W (0.60mm x 0.30mm); Size / Dimension: -; Height - Seated (Max): 0.013" (0.33mm); Thickness (Max): -; Lead Spacing: -
footprint SMD-0201C
pins: 1, 2

## GJM0335C1E2R2BB01D
designator C?, comment 2.2pF
CAP CER 2.2PF 25V NP0 0201; Part Number: GJM0335C1E2R2BB01D; Manufacturer: Murata Electronics North America; Factory Stock: 0; Unit Price (USD): 0.15; Minimum Quantity: 1; Tolerance: ±0.1pF; Temperature Coefficient: C0G, NP0; Datasheets: http://www.murata.com/~/media/webrenewal/support/library/catalog/products/capacitor/mlcc/c02e.pdf; Image: //media.digikey.com/Renders/Murata%20Renders/ZRB-SERIES-0402.jpg; Digi-Key Part Number: 490-8070-1-ND; Quantity Available: 30022; @ qty: 0; Packaging: Cut Tape (CT); Series: GJM; Part Status: Active; Value: 2.2pF; Voltage: 25V; Operating Temperature: -55°C ~ 125°C; Features: High Q, Low Loss; Ratings: -; Applications: RF, Microwave, High Frequency; Failure Rate: Surface Mount, MLCC; Mounting Type: 0201 (0603 Metric); Package / Case: 0.024" L x 0.012" W (0.60mm x 0.30mm); Size / Dimension: -; Height - Seated (Max): 0.013" (0.33mm); Thickness (Max): -; Lead Spacing: -
footprint SMD-0201C
pins: 1, 2

## GJM0335C1E2R2CB01D
designator C?, comment 2.2pF
CAP CER 2.2PF 25V NP0 0201; Part Number: GJM0335C1E2R2CB01D; Manufacturer: Murata Electronics North America; Factory Stock: 0; Unit Price (USD): 0.1; Minimum Quantity: 1; Tolerance: ±0.25pF; Temperature Coefficient: C0G, NP0; Datasheets: http://www.murata.com/~/media/webrenewal/support/library/catalog/products/capacitor/mlcc/c02e.pdf; Image: //media.digikey.com/Renders/Murata%20Renders/ZRB-SERIES-0402.jpg; Digi-Key Part Number: 490-3061-1-ND; Quantity Available: 143041; @ qty: 0; Packaging: Cut Tape (CT); Series: GJM; Part Status: Active; Value: 2.2pF; Voltage: 25V; Operating Temperature: -55°C ~ 125°C; Features: High Q, Low Loss; Ratings: -; Applications: RF, Microwave, High Frequency; Failure Rate: Surface Mount, MLCC; Mounting Type: 0201 (0603 Metric); Package / Case: 0.024" L x 0.012" W (0.60mm x 0.30mm); Size / Dimension: -; Height - Seated (Max): 0.013" (0.33mm); Thickness (Max): -; Lead Spacing: -
footprint SMD-0201C
pins: 1, 2

## GJM0335C1E2R4BB01D
designator C?, comment 2.4pF
CAP CER 2.4PF 25V NP0 0201; Part Number: GJM0335C1E2R4BB01D; Manufacturer: Murata Electronics North America; Factory Stock: 0; Unit Price (USD): 0.21; Minimum Quantity: 1; Tolerance: ±0.1pF; Temperature Coefficient: C0G, NP0; Datasheets: http://www.murata.com/~/media/webrenewal/support/library/catalog/products/capacitor/mlcc/c02e.pdf; Image: //media.digikey.com/Renders/Murata%20Renders/ZRB-SERIES-0402.jpg; Digi-Key Part Number: 490-11179-1-ND; Quantity Available: 11030; @ qty: 0; Packaging: Cut Tape (CT); Series: GJM; Part Status: Active; Value: 2.4pF; Voltage: 25V; Operating Temperature: -55°C ~ 125°C; Features: High Q, Low Loss; Ratings: -; Applications: RF, Microwave, High Frequency; Failure Rate: Surface Mount, MLCC; Mounting Type: 0201 (0603 Metric); Package / Case: 0.024" L x 0.012" W (0.60mm x 0.30mm); Size / Dimension: -; Height - Seated (Max): 0.013" (0.33mm); Thickness (Max): -; Lead Spacing: -
footprint SMD-0201C
pins: 1, 2

## GJM0335C1E2R4CB01D
designator C?, comment 2.4pF
CAP CER 2.4PF 25V NP0 0201; Part Number: GJM0335C1E2R4CB01D; Manufacturer: Murata Electronics North America; Factory Stock: 0; Unit Price (USD): 0.1; Minimum Quantity: 1; Tolerance: ±0.25pF; Temperature Coefficient: C0G, NP0; Datasheets: http://www.murata.com/~/media/webrenewal/support/library/catalog/products/capacitor/mlcc/c02e.pdf; Image: //media.digikey.com/Renders/Murata%20Renders/ZRB-SERIES-0402.jpg; Digi-Key Part Number: 490-3062-1-ND; Quantity Available: 2567; @ qty: 0; Packaging: Cut Tape (CT); Series: GJM; Part Status: Active; Value: 2.4pF; Voltage: 25V; Operating Temperature: -55°C ~ 125°C; Features: High Q, Low Loss; Ratings: -; Applications: RF, Microwave, High Frequency; Failure Rate: Surface Mount, MLCC; Mounting Type: 0201 (0603 Metric); Package / Case: 0.024" L x 0.012" W (0.60mm x 0.30mm); Size / Dimension: -; Height - Seated (Max): 0.013" (0.33mm); Thickness (Max): -; Lead Spacing: -
footprint SMD-0201C
pins: 1, 2

## GJM0335C1E2R7BB01D
designator C?, comment 2.7pF
CAP CER 2.7PF 25V NP0 0201; Part Number: GJM0335C1E2R7BB01D; Manufacturer: Murata Electronics North America; Factory Stock: 0; Unit Price (USD): 0.15; Minimum Quantity: 1; Tolerance: ±0.1pF; Temperature Coefficient: C0G, NP0; Datasheets: http://www.murata.com/~/media/webrenewal/support/library/catalog/products/capacitor/mlcc/c02e.pdf; Image: //media.digikey.com/Renders/Murata%20Renders/ZRB-SERIES-0402.jpg; Digi-Key Part Number: 490-8071-1-ND; Quantity Available: 40565; @ qty: 0; Packaging: Cut Tape (CT); Series: GJM; Part Status: Active; Value: 2.7pF; Voltage: 25V; Operating Temperature: -55°C ~ 125°C; Features: High Q, Low Loss; Ratings: -; Applications: RF, Microwave, High Frequency; Failure Rate: Surface Mount, MLCC; Mounting Type: 0201 (0603 Metric); Package / Case: 0.024" L x 0.012" W (0.60mm x 0.30mm); Size / Dimension: -; Height - Seated (Max): 0.013" (0.33mm); Thickness (Max): -; Lead Spacing: -
footprint SMD-0201C
pins: 1, 2

## GJM0335C1E2R7CB01D
designator C?, comment 2.7pF
CAP CER 2.7PF 25V NP0 0201; Part Number: GJM0335C1E2R7CB01D; Manufacturer: Murata Electronics North America; Factory Stock: 0; Unit Price (USD): 0.1; Minimum Quantity: 1; Tolerance: ±0.25pF; Temperature Coefficient: C0G, NP0; Datasheets: http://www.murata.com/~/media/webrenewal/support/library/catalog/products/capacitor/mlcc/c02e.pdf; Image: //media.digikey.com/Renders/Murata%20Renders/ZRB-SERIES-0402.jpg; Digi-Key Part Number: 490-3063-1-ND; Quantity Available: 34703; @ qty: 0; Packaging: Cut Tape (CT); Series: GJM; Part Status: Active; Value: 2.7pF; Voltage: 25V; Operating Temperature: -55°C ~ 125°C; Features: High Q, Low Loss; Ratings: -; Applications: RF, Microwave, High Frequency; Failure Rate: Surface Mount, MLCC; Mounting Type: 0201 (0603 Metric); Package / Case: 0.024" L x 0.012" W (0.60mm x 0.30mm); Size / Dimension: -; Height - Seated (Max): 0.013" (0.33mm); Thickness (Max): -; Lead Spacing: -
footprint SMD-0201C
pins: 1, 2

## GJM0335C1E3R0BB01D
designator C?, comment 3pF
CAP CER 3.0PF 25V NP0 0201; Part Number: GJM0335C1E3R0BB01D; Manufacturer: Murata Electronics North America; Factory Stock: 0; Unit Price (USD): 0.21; Minimum Quantity: 1; Tolerance: ±0.1pF; Temperature Coefficient: C0G, NP0; Datasheets: http://www.murata.com/~/media/webrenewal/support/library/catalog/products/capacitor/mlcc/c02e.pdf; Image: //media.digikey.com/Renders/Murata%20Renders/ZRB-SERIES-0402.jpg; Digi-Key Part Number: 490-12593-1-ND; Quantity Available: 2368; @ qty: 0; Packaging: Cut Tape (CT); Series: GJM; Part Status: Active; Value: 3pF; Voltage: 25V; Operating Temperature: -55°C ~ 125°C; Features: High Q, Low Loss; Ratings: -; Applications: RF, Microwave, High Frequency; Failure Rate: Surface Mount, MLCC; Mounting Type: 0201 (0603 Metric); Package / Case: 0.024" L x 0.012" W (0.60mm x 0.30mm); Size / Dimension: -; Height - Seated (Max): 0.013" (0.33mm); Thickness (Max): -; Lead Spacing: -
footprint SMD-0201C
pins: 1, 2

## GJM0335C1E3R0CB01D
designator C?, comment 3pF
CAP CER 3PF 25V NP0 0201; Part Number: GJM0335C1E3R0CB01D; Manufacturer: Murata Electronics North America; Factory Stock: 0; Unit Price (USD): 0.1; Minimum Quantity: 1; Tolerance: ±0.25pF; Temperature Coefficient: C0G, NP0; Datasheets: http://www.murata.com/~/media/webrenewal/support/library/catalog/products/capacitor/mlcc/c02e.pdf; Image: //media.digikey.com/Renders/Murata%20Renders/ZRB-SERIES-0402.jpg; Digi-Key Part Number: 490-3064-1-ND; Quantity Available: 9402; @ qty: 0; Packaging: Cut Tape (CT); Series: GJM; Part Status: Active; Value: 3pF; Voltage: 25V; Operating Temperature: -55°C ~ 125°C; Features: High Q, Low Loss; Ratings: -; Applications: RF, Microwave, High Frequency; Failure Rate: Surface Mount, MLCC; Mounting Type: 0201 (0603 Metric); Package / Case: 0.024" L x 0.012" W (0.60mm x 0.30mm); Size / Dimension: -; Height - Seated (Max): 0.013" (0.33mm); Thickness (Max): -; Lead Spacing: -
footprint SMD-0201C
pins: 1, 2

## GJM0335C1E3R3BB01D
designator C?, comment 3.3pF
CAP CER 3.3PF 25V NP0 0201; Part Number: GJM0335C1E3R3BB01D; Manufacturer: Murata Electronics North America; Factory Stock: 0; Unit Price (USD): 0.21; Minimum Quantity: 1; Tolerance: ±0.1pF; Temperature Coefficient: C0G, NP0; Datasheets: http://www.murata.com/~/media/webrenewal/support/library/catalog/products/capacitor/mlcc/c02e.pdf; Image: //media.digikey.com/Renders/Murata%20Renders/ZRB-SERIES-0402.jpg; Digi-Key Part Number: 490-12594-1-ND; Quantity Available: 21115; @ qty: 0; Packaging: Cut Tape (CT); Series: GJM; Part Status: Active; Value: 3.3pF; Voltage: 25V; Operating Temperature: -55°C ~ 125°C; Features: High Q, Low Loss; Ratings: -; Applications: RF, Microwave, High Frequency; Failure Rate: Surface Mount, MLCC; Mounting Type: 0201 (0603 Metric); Package / Case: 0.024" L x 0.012" W (0.60mm x 0.30mm); Size / Dimension: -; Height - Seated (Max): 0.013" (0.33mm); Thickness (Max): -; Lead Spacing: -
footprint SMD-0201C
pins: 1, 2

## GJM0335C1E3R3CB01D
designator C?, comment 3.3pF
CAP CER 3.3PF 25V NP0 0201; Part Number: GJM0335C1E3R3CB01D; Manufacturer: Murata Electronics North America; Factory Stock: 0; Unit Price (USD): 0.1; Minimum Quantity: 1; Tolerance: ±0.25pF; Temperature Coefficient: C0G, NP0; Datasheets: http://www.murata.com/~/media/webrenewal/support/library/catalog/products/capacitor/mlcc/c02e.pdf; Image: //media.digikey.com/Renders/Murata%20Renders/ZRB-SERIES-0402.jpg; Digi-Key Part Number: 490-3065-1-ND; Quantity Available: 44406; @ qty: 0; Packaging: Cut Tape (CT); Series: GJM; Part Status: Active; Value: 3.3pF; Voltage: 25V; Operating Temperature: -55°C ~ 125°C; Features: High Q, Low Loss; Ratings: -; Applications: RF, Microwave, High Frequency; Failure Rate: Surface Mount, MLCC; Mounting Type: 0201 (0603 Metric); Package / Case: 0.024" L x 0.012" W (0.60mm x 0.30mm); Size / Dimension: -; Height - Seated (Max): 0.013" (0.33mm); Thickness (Max): -; Lead Spacing: -
footprint SMD-0201C
pins: 1, 2

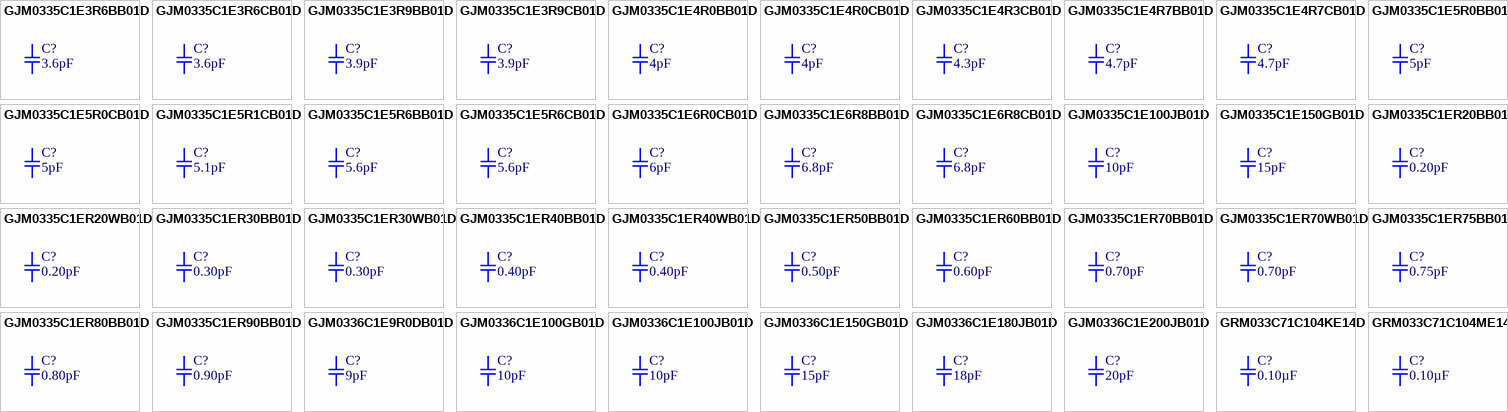
[diagram p1: symbols GJM0335C1E3R6BB01D to GRM033C71C104ME14D]

## GJM0335C1E3R6BB01D
designator C?, comment 3.6pF
CAP CER 3.6PF 25V NP0 0201; Part Number: GJM0335C1E3R6BB01D; Manufacturer: Murata Electronics North America; Factory Stock: 0; Unit Price (USD): 0.21; Minimum Quantity: 1; Tolerance: ±0.1pF; Temperature Coefficient: C0G, NP0; Datasheets: http://www.murata.com/~/media/webrenewal/support/library/catalog/products/capacitor/mlcc/c02e.pdf; Image: //media.digikey.com/Renders/Murata%20Renders/ZRB-SERIES-0402.jpg; Digi-Key Part Number: 490-11180-1-ND; Quantity Available: 6130; @ qty: 0; Packaging: Cut Tape (CT); Series: GJM; Part Status: Active; Value: 3.6pF; Voltage: 25V; Operating Temperature: -55°C ~ 125°C; Features: High Q, Low Loss; Ratings: -; Applications: RF, Microwave, High Frequency; Failure Rate: Surface Mount, MLCC; Mounting Type: 0201 (0603 Metric); Package / Case: 0.024" L x 0.012" W (0.60mm x 0.30mm); Size / Dimension: -; Height - Seated (Max): 0.013" (0.33mm); Thickness (Max): -; Lead Spacing: -
footprint SMD-0201C
pins: 1, 2

## GJM0335C1E3R6CB01D
designator C?, comment 3.6pF
CAP CER 3.6PF 25V NP0 0201; Part Number: GJM0335C1E3R6CB01D; Manufacturer: Murata Electronics North America; Factory Stock: 0; Unit Price (USD): 0.13; Minimum Quantity: 1; Tolerance: ±0.25pF; Temperature Coefficient: C0G, NP0; Datasheets: http://www.murata.com/~/media/webrenewal/support/library/catalog/products/capacitor/mlcc/c02e.pdf; Image: //media.digikey.com/Renders/Murata%20Renders/ZRB-SERIES-0402.jpg; Digi-Key Part Number: 490-3066-1-ND; Quantity Available: 36180; @ qty: 0; Packaging: Cut Tape (CT); Series: GJM; Part Status: Active; Value: 3.6pF; Voltage: 25V; Operating Temperature: -55°C ~ 125°C; Features: High Q, Low Loss; Ratings: -; Applications: RF, Microwave, High Frequency; Failure Rate: Surface Mount, MLCC; Mounting Type: 0201 (0603 Metric); Package / Case: 0.024" L x 0.012" W (0.60mm x 0.30mm); Size / Dimension: -; Height - Seated (Max): 0.013" (0.33mm); Thickness (Max): -; Lead Spacing: -
footprint SMD-0201C
pins: 1, 2

## GJM0335C1E3R9BB01D
designator C?, comment 3.9pF
CAP CER 3.9PF 25V NP0 0201; Part Number: GJM0335C1E3R9BB01D; Manufacturer: Murata Electronics North America; Factory Stock: 0; Unit Price (USD): 0.21; Minimum Quantity: 1; Tolerance: ±0.1pF; Temperature Coefficient: C0G, NP0; Datasheets: http://www.murata.com/~/media/webrenewal/support/library/catalog/products/capacitor/mlcc/c02e.pdf; Image: //media.digikey.com/Renders/Murata%20Renders/ZRB-SERIES-0402.jpg; Digi-Key Part Number: 490-11181-1-ND; Quantity Available: 21540; @ qty: 0; Packaging: Cut Tape (CT); Series: GJM; Part Status: Active; Value: 3.9pF; Voltage: 25V; Operating Temperature: -55°C ~ 125°C; Features: High Q, Low Loss; Ratings: -; Applications: RF, Microwave, High Frequency; Failure Rate: Surface Mount, MLCC; Mounting Type: 0201 (0603 Metric); Package / Case: 0.024" L x 0.012" W (0.60mm x 0.30mm); Size / Dimension: -; Height - Seated (Max): 0.013" (0.33mm); Thickness (Max): -; Lead Spacing: -
footprint SMD-0201C
pins: 1, 2

## GJM0335C1E3R9CB01D
designator C?, comment 3.9pF
CAP CER 3.9PF 25V NP0 0201; Part Number: GJM0335C1E3R9CB01D; Manufacturer: Murata Electronics North America; Factory Stock: 0; Unit Price (USD): 0.1; Minimum Quantity: 1; Tolerance: ±0.25pF; Temperature Coefficient: C0G, NP0; Datasheets: http://www.murata.com/~/media/webrenewal/support/library/catalog/products/capacitor/mlcc/c02e.pdf; Image: //media.digikey.com/Renders/Murata%20Renders/ZRB-SERIES-0402.jpg; Digi-Key Part Number: 490-3067-1-ND; Quantity Available: 88561; @ qty: 0; Packaging: Cut Tape (CT); Series: GJM; Part Status: Active; Value: 3.9pF; Voltage: 25V; Operating Temperature: -55°C ~ 125°C; Features: High Q, Low Loss; Ratings: -; Applications: RF, Microwave, High Frequency; Failure Rate: Surface Mount, MLCC; Mounting Type: 0201 (0603 Metric); Package / Case: 0.024" L x 0.012" W (0.60mm x 0.30mm); Size / Dimension: -; Height - Seated (Max): 0.013" (0.33mm); Thickness (Max): -; Lead Spacing: -
footprint SMD-0201C
pins: 1, 2

## GJM0335C1E4R0BB01D
designator C?, comment 4pF
CAP CER 4.0PF 25V NP0 0201; Part Number: GJM0335C1E4R0BB01D; Manufacturer: Murata Electronics North America; Factory Stock: 0; Unit Price (USD): 0.21; Minimum Quantity: 1; Tolerance: ±0.1pF; Temperature Coefficient: C0G, NP0; Datasheets: http://www.murata.com/~/media/webrenewal/support/library/catalog/products/capacitor/mlcc/c02e.pdf; Image: //media.digikey.com/Renders/Murata%20Renders/ZRB-SERIES-0402.jpg; Digi-Key Part Number: 490-12595-1-ND; Quantity Available: 28110; @ qty: 0; Packaging: Cut Tape (CT); Series: GJM; Part Status: Active; Value: 4pF; Voltage: 25V; Operating Temperature: -55°C ~ 125°C; Features: High Q, Low Loss; Ratings: -; Applications: RF, Microwave, High Frequency; Failure Rate: Surface Mount, MLCC; Mounting Type: 0201 (0603 Metric); Package / Case: 0.024" L x 0.012" W (0.60mm x 0.30mm); Size / Dimension: -; Height - Seated (Max): 0.013" (0.33mm); Thickness (Max): -; Lead Spacing: -
footprint SMD-0201C
pins: 1, 2

## GJM0335C1E4R0CB01D
designator C?, comment 4pF
CAP CER 4PF 25V NP0 0201; Part Number: GJM0335C1E4R0CB01D; Manufacturer: Murata Electronics North America; Factory Stock: 0; Unit Price (USD): 0.1; Minimum Quantity: 1; Tolerance: ±0.25pF; Temperature Coefficient: C0G, NP0; Datasheets: http://www.murata.com/~/media/webrenewal/support/library/catalog/products/capacitor/mlcc/c02e.pdf; Image: //media.digikey.com/Renders/Murata%20Renders/ZRB-SERIES-0402.jpg; Digi-Key Part Number: 490-3068-1-ND; Quantity Available: 25657; @ qty: 0; Packaging: Cut Tape (CT); Series: GJM; Part Status: Active; Value: 4pF; Voltage: 25V; Operating Temperature: -55°C ~ 125°C; Features: High Q, Low Loss; Ratings: -; Applications: RF, Microwave, High Frequency; Failure Rate: Surface Mount, MLCC; Mounting Type: 0201 (0603 Metric); Package / Case: 0.024" L x 0.012" W (0.60mm x 0.30mm); Size / Dimension: -; Height - Seated (Max): 0.013" (0.33mm); Thickness (Max): -; Lead Spacing: -
footprint SMD-0201C
pins: 1, 2

## GJM0335C1E4R3CB01D
designator C?, comment 4.3pF
CAP CER 4.3PF 25V NP0 0201; Part Number: GJM0335C1E4R3CB01D; Manufacturer: Murata Electronics North America; Factory Stock: 0; Unit Price (USD): 0.1; Minimum Quantity: 1; Tolerance: ±0.25pF; Temperature Coefficient: C0G, NP0; Datasheets: http://www.murata.com/~/media/webrenewal/support/library/catalog/products/capacitor/mlcc/c02e.pdf; Image: //media.digikey.com/Renders/Murata%20Renders/ZRB-SERIES-0402.jpg; Digi-Key Part Number: 490-3069-1-ND; Quantity Available: 34556; @ qty: 0; Packaging: Cut Tape (CT); Series: GJM; Part Status: Active; Value: 4.3pF; Voltage: 25V; Operating Temperature: -55°C ~ 125°C; Features: High Q, Low Loss; Ratings: -; Applications: RF, Microwave, High Frequency; Failure Rate: Surface Mount, MLCC; Mounting Type: 0201 (0603 Metric); Package / Case: 0.024" L x 0.012" W (0.60mm x 0.30mm); Size / Dimension: -; Height - Seated (Max): 0.013" (0.33mm); Thickness (Max): -; Lead Spacing: -
footprint SMD-0201C
pins: 1, 2

## GJM0335C1E4R7BB01D
designator C?, comment 4.7pF
CAP CER 4.7PF 25V NP0 0201; Part Number: GJM0335C1E4R7BB01D; Manufacturer: Murata Electronics North America; Factory Stock: 0; Unit Price (USD): 0.21; Minimum Quantity: 1; Tolerance: ±0.1pF; Temperature Coefficient: C0G, NP0; Datasheets: http://www.murata.com/~/media/webrenewal/support/library/catalog/products/capacitor/mlcc/c02e.pdf; Image: //media.digikey.com/Renders/Murata%20Renders/ZRB-SERIES-0402.jpg; Digi-Key Part Number: 490-8072-1-ND; Quantity Available: 41681; @ qty: 0; Packaging: Cut Tape (CT); Series: GJM; Part Status: Active; Value: 4.7pF; Voltage: 25V; Operating Temperature: -55°C ~ 125°C; Features: High Q, Low Loss; Ratings: -; Applications: RF, Microwave, High Frequency; Failure Rate: Surface Mount, MLCC; Mounting Type: 0201 (0603 Metric); Package / Case: 0.024" L x 0.012" W (0.60mm x 0.30mm); Size / Dimension: -; Height - Seated (Max): 0.013" (0.33mm); Thickness (Max): -; Lead Spacing: -
footprint SMD-0201C
pins: 1, 2

## GJM0335C1E4R7CB01D
designator C?, comment 4.7pF
CAP CER 4.7PF 25V NP0 0201; Part Number: GJM0335C1E4R7CB01D; Manufacturer: Murata Electronics North America; Factory Stock: 0; Unit Price (USD): 0.1; Minimum Quantity: 1; Tolerance: ±0.25pF; Temperature Coefficient: C0G, NP0; Datasheets: http://www.murata.com/~/media/webrenewal/support/library/catalog/products/capacitor/mlcc/c02e.pdf; Image: //media.digikey.com/Renders/Murata%20Renders/ZRB-SERIES-0402.jpg; Digi-Key Part Number: 490-3070-1-ND; Quantity Available: 66636; @ qty: 0; Packaging: Cut Tape (CT); Series: GJM; Part Status: Active; Value: 4.7pF; Voltage: 25V; Operating Temperature: -55°C ~ 125°C; Features: High Q, Low Loss; Ratings: -; Applications: RF, Microwave, High Frequency; Failure Rate: Surface Mount, MLCC; Mounting Type: 0201 (0603 Metric); Package / Case: 0.024" L x 0.012" W (0.60mm x 0.30mm); Size / Dimension: -; Height - Seated (Max): 0.013" (0.33mm); Thickness (Max): -; Lead Spacing: -
footprint SMD-0201C
pins: 1, 2

## GJM0335C1E5R0BB01D
designator C?, comment 5pF
CAP CER 5.0PF 25V NP0 0201; Part Number: GJM0335C1E5R0BB01D; Manufacturer: Murata Electronics North America; Factory Stock: 0; Unit Price (USD): 0.21; Minimum Quantity: 1; Tolerance: ±0.1pF; Temperature Coefficient: C0G, NP0; Datasheets: http://www.murata.com/~/media/webrenewal/support/library/catalog/products/capacitor/mlcc/c02e.pdf; Image: //media.digikey.com/Renders/Murata%20Renders/ZRB-SERIES-0402.jpg; Digi-Key Part Number: 490-12596-1-ND; Quantity Available: 46376; @ qty: 0; Packaging: Cut Tape (CT); Series: GJM; Part Status: Active; Value: 5pF; Voltage: 25V; Operating Temperature: -55°C ~ 125°C; Features: High Q, Low Loss; Ratings: -; Applications: RF, Microwave, High Frequency; Failure Rate: Surface Mount, MLCC; Mounting Type: 0201 (0603 Metric); Package / Case: 0.024" L x 0.012" W (0.60mm x 0.30mm); Size / Dimension: -; Height - Seated (Max): 0.013" (0.33mm); Thickness (Max): -; Lead Spacing: -
footprint SMD-0201C
pins: 1, 2